# Altium footprint library MyLibs_Connectors.PcbLib: 20 footprints (part 1 of 2)
Each footprint in its own frame and in the unit in brackets; x right, y up, seen from the top. Pads: shape width x height; smd on the part's side, far side on the other; paste and mask are expansions set on the pad; w line width, h text height; cw(c..) or ccw(c..) is an arc to the next point about the centre after c.
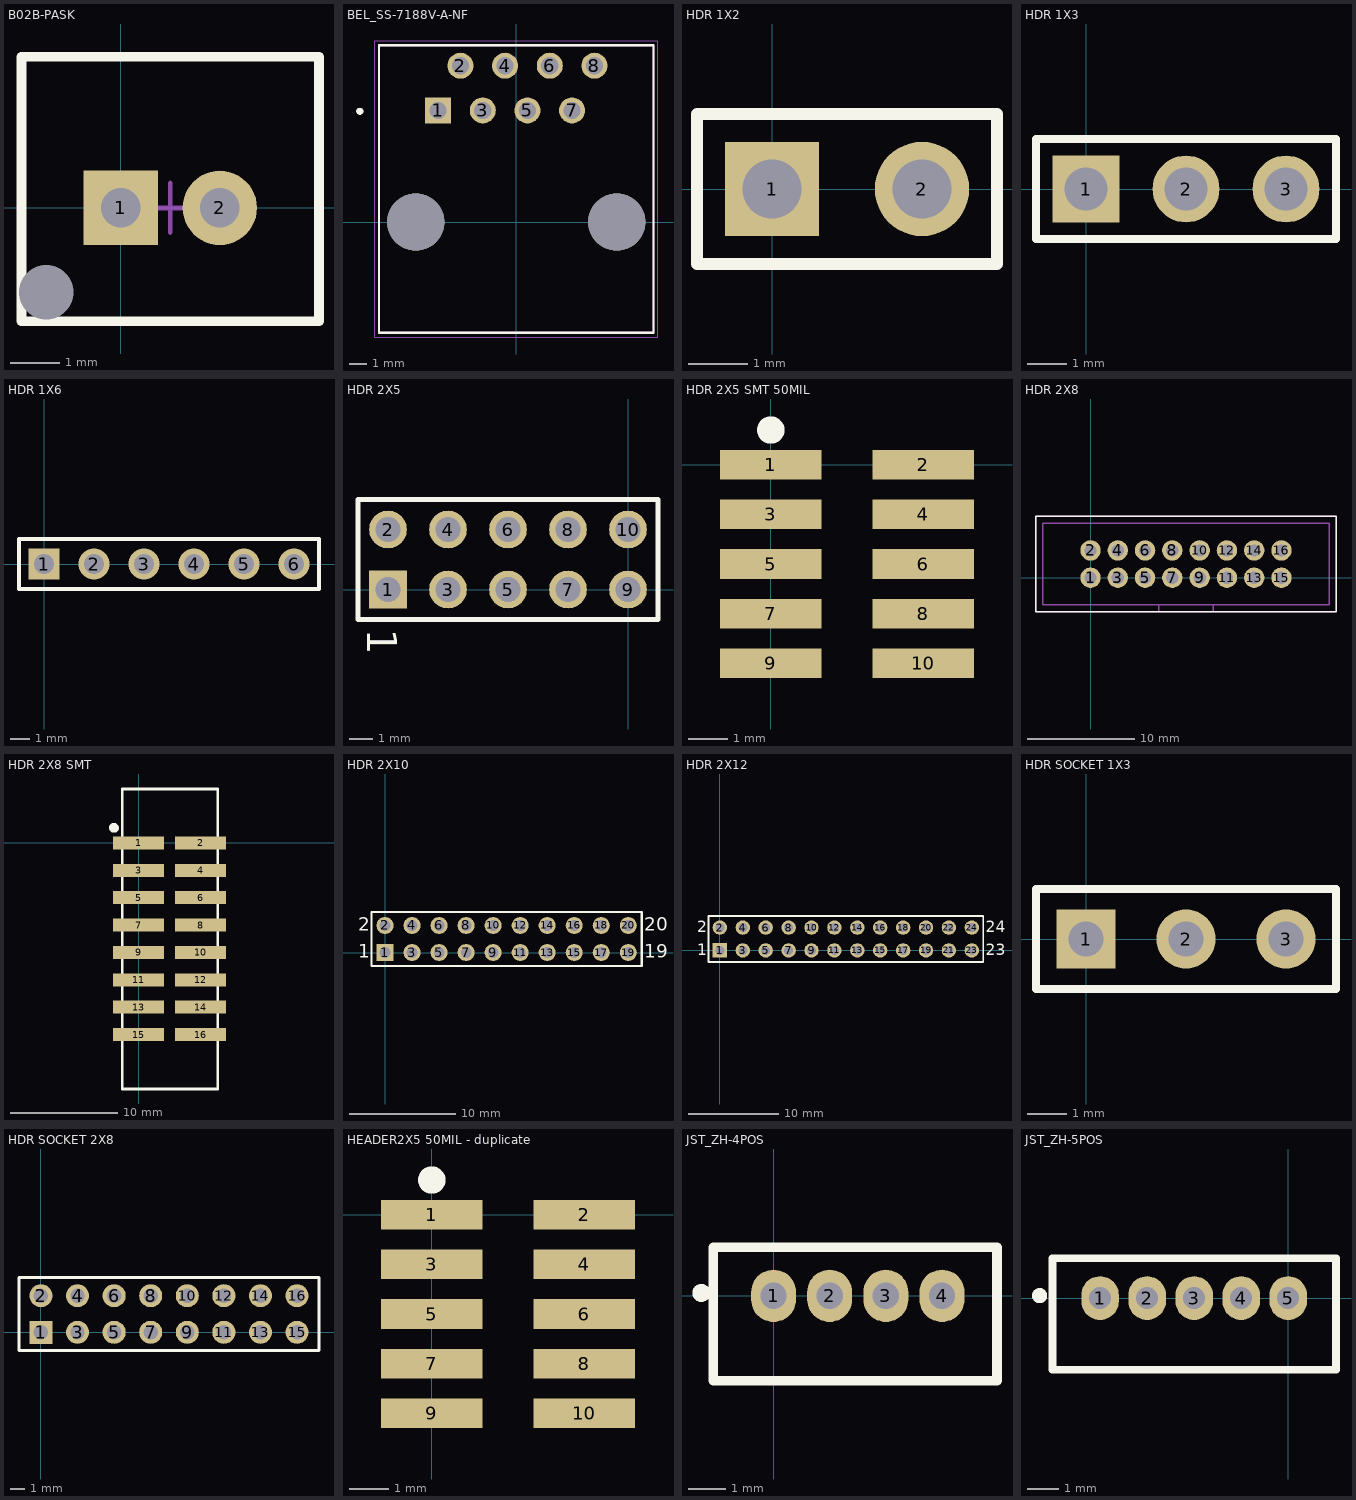
[diagram p0: the footprints below, top view; thin cyan lines are the x and y axes]

## B02B-PASK [mm]
pads (3):
  rect 1.5x1.5 hole 0.8: 1(0,0)
  round 1.5 hole 0.8: 2(2,0)
  round 0 hole 1.1 unplated: 3(-1.5,-1.7)
Top Overlay:
  lines w0.2: -2,-2.286 4,-2.286 4,3.048 -2,3.048 -2,-2.286
Top Designator:
  text ".Designator" at -1.005,0.18 h0.89
Mechanical 13:
  lines w0.1: -2,-2.286 -2,3.048 4,3.048 4,-2.286 -2,-2.286
Mechanical 15:
  lines w0.1: 0.5,0 1.5,0 ; 1,-0.5 1,0.5
3D body "B02B-PASK.STEP": height 7.71, standoff -2.99, extent -1.984,-2.2 4.016,3.1

## BEL_SS-7188V-A-NF [mm]
pads (10):
  rect 1.478x1.478 hole 0.97: 1(-4.445,6.35)
  round 1.478 hole 0.97: 2(-3.175,8.89) 3(-1.905,6.35) 4(-0.635,8.89) 5(0.635,6.35) 6(1.905,8.89) 7(3.175,6.35) 8(4.445,8.89)
  round 3.25 hole 3.25 unplated: ""(-5.715,0) ""(5.715,0)
Top Overlay:
  circle w0.2: c-8.9,6.3 r0.1
  lines w0.127: -7.81,-6.3 7.81,-6.3 7.81,10.06 -7.81,10.06 -7.81,-6.3
Mechanical 13:
  circle w0.2: c-8.9,6.3 r0.1
  lines w0.127: -7.81,-6.3 -7.81,10.06 7.81,10.06 7.81,-6.3 -7.81,-6.3
Mechanical 15:
  lines w0.05: -8.06,-6.55 -8.06,10.31 8.06,10.31 8.06,-6.55 -8.06,-6.55
3D body "pxc_1091947_00_CUC-IND-J1ST-S-R4LS-LED_3D.stp": height 13.68, standoff -4.18, extent -8.074,-5.178 8.074,9.525

## HDR 1X2 [mm] "Connector; Header; 2 Position"
pads (2):
  rect 1.6x1.6 hole 1: 1(0,0)
  round 1.6 hole 1: 2(2.54,0)
Top Overlay:
  lines w0.2: -1.27,-1.27 -1.27,1.27 3.81,1.27 3.81,-1.27 -1.27,-1.27

## HDR 1X3 [mm] "Header TH 1.1mm holes"
pads (3):
  rect 1.7x1.7 hole 1.1: 1(0,0)
  round 1.7 hole 1.1: 2(2.54,0) 3(5.08,0)
Top Overlay:
  lines w0.2: -1.27,-1.27 -1.27,1.27 6.35,1.27 6.35,-1.27 -1.27,-1.27
Mechanical 10:
  text ".Designator" at 0.076,-1.057 h1
3D body "61300311121_Download_STP_61300311121_rev1.stp": height 8.55, standoff -2.99, extent -1.27,-1.27 6.35,1.27

## HDR 1X6 [mm] "Connector; Header; 6 Position"
pads (6):
  rect 1.6x1.6 hole 1: 1(0,0)
  round 1.6 hole 1: 2(2.54,0) 3(5.08,0) 4(7.62,0) 5(10.16,0) 6(12.7,0)
Top Overlay:
  lines w0.2: -1.27,-1.27 13.97,-1.27 13.97,1.27 -1.27,1.27 -1.27,-1.27

## HDR 2X5 [mm] "Connector; Header; 15x2 Position"
pads (10):
  rect 1.6x1.6 hole 1.05: 1(-10.16,0)
  round 1.6 hole 1.05: 2(-10.16,2.54) 3(-7.62,0) 4(-7.62,2.54) 5(-5.08,0) 6(-5.08,2.54) 7(-2.54,0) 8(-2.54,2.54) 9(0,0) 10(0,2.54)
Top Overlay:
  lines w0.2: -11.43,-1.27 -11.43,3.81 1.27,3.81 1.27,-1.27 -11.43,-1.27
  text "1" at -11.049,-1.651 h1.27
Top Designator:
  text ".Designator" at -9.079,0.55 h0.8
3D body "_ _ _C005DAAN-RC.STEP": height 8.35, standoff -3.04, extent -11.43,-1.19 1.27,3.81

## HDR 2X5 SMT 50MIL [mm] "50mil"
pads (10):
  rect 2.6x0.76 smd: 1(0,0) 2(3.9,0) 3(0,-1.27) 4(3.9,-1.27) 5(0,-2.54) 6(3.9,-2.54) 7(0,-3.81) 8(3.9,-3.81) 9(0,-5.08) 10(3.9,-5.08)
Top Overlay:
  circle w0.5: c0,0.889 r0.1
Top Designator:
  text ".Designator" at 5.949,-1.971 h0.8
3D body "header_2x5.stp": height 4.51, standoff 0.01, extent -0.762,-5.715 4.738,0.635

## HDR 2X8 [mm] "HDR 2X8 TH 2.54MM SHROUDED"
pads (16):
  round 1.9 hole 1.14: 1(0,0) 2(0,2.54) 3(2.54,0) 4(2.54,2.54) 5(5.08,0) 6(5.08,2.54) 7(7.62,0) 8(7.62,2.54) 9(10.16,0) 10(10.16,2.54) 11(12.7,0) 12(12.7,2.54) 13(15.24,0) 14(15.24,2.54) 15(17.78,0) 16(17.78,2.54)
Top Overlay:
  lines w0.125: -5.08,-3.175 22.86,-3.175 22.86,5.725 -5.08,5.725 -5.08,-3.175
Top Designator:
  text ".Designator" at 10.895,1.476 h0.89
Top Component Outline:
  lines w0.125: 6.35,-3.175 6.35,-2.54 ; 11.43,-3.175 11.43,-2.54 ; -5.08,-3.175 -5.08,5.715 22.86,5.715 22.86,-3.175 -5.08,-3.175 ; -4.445,-2.54 -4.445,5.08 22.225,5.08 22.225,-2.54 -4.445,-2.54
3D body "702461604.stp": height 9.25, standoff -3.44, extent -5.08,-3.175 22.86,5.715

## HDR 2X8 SMT [mm] "CNC 16POS 2.54MM SMT CONNECTOR"
pads (16):
  rect 4.75x1.2 smd: 1(0,0) 2(5.75,0) 3(0,-2.54) 4(5.75,-2.54) 5(0,-5.08) 6(5.75,-5.08) 7(0,-7.62) 8(5.75,-7.62) 9(0,-10.16) 10(5.75,-10.16) 11(0,-12.7) 12(5.75,-12.7) 13(0,-15.24) 14(5.75,-15.24) 15(0,-17.78) 16(5.75,-17.78)
Top Overlay:
  circle w0.5: c-2.286,1.397 r0.2
  lines w0.254: -1.524,-22.835 7.341,-22.835 7.341,5.004 -1.524,5.004 -1.524,-22.047 -1.524,-22.835
Top Designator:
  text ".Designator" at 4.699,-8.714 h0.89
3D body "SBH11-_ _ _C-D08-SM-_ _.STEP": height 10.63, standoff 0.01, extent -2.275,-22.828 8.025,4.992

## HDR 2X10 [mm] "Connector; Header; 10x2 Position"
pads (20):
  rect 1.6x1.6 hole 1: 1(0,0)
  round 1.6 hole 1: 2(0,2.54) 3(2.54,0) 4(2.54,2.54) 5(5.08,0) 6(5.08,2.54) 7(7.62,0) 8(7.62,2.54) 9(10.16,0) 10(10.16,2.54) 11(12.7,0) 12(12.7,2.54) 13(15.24,0) 14(15.24,2.54) 15(17.78,0) 16(17.78,2.54) 17(20.32,0) 18(20.32,2.54) 19(22.86,0) 20(22.86,2.54)
Top Overlay:
  lines w0.2: -1.27,-1.27 -1.27,3.81 0.635,3.81 24.13,3.81 24.13,-1.27 0.635,-1.27 -1.27,-1.27
  text "2" at -2.54,2.032 h1.27
  text "1" at -2.54,-0.508 h1.27
  text "19" at 24.384,-0.508 h1.27
  text "20" at 24.384,2.032 h1.27
3D body "_ _ _C010DFAN-RC.STEP": height 10.59, standoff -3.04, extent -1.27,-1.19 24.13,3.81

## HDR 2X12 [mm] "Connector; Header; 12x2 Position"
pads (24):
  rect 1.6x1.6 hole 1: 1(0,0)
  round 1.6 hole 1: 2(0,2.54) 3(2.54,0) 4(2.54,2.54) 5(5.08,0) 6(5.08,2.54) 7(7.62,0) 8(7.62,2.54) 9(10.16,0) 10(10.16,2.54) 11(12.7,0) 12(12.7,2.54) 13(15.24,0) 14(15.24,2.54) 15(17.78,0) 16(17.78,2.54) 17(20.32,0) 18(20.32,2.54) 19(22.86,0) 20(22.86,2.54) 21(25.4,0) 22(25.4,2.54) 23(27.94,0) 24(27.94,2.54)
Top Overlay:
  lines w0.2: -1.27,-1.27 0.635,-1.27 29.21,-1.27 29.21,3.81 0.635,3.81 -1.27,3.81 -1.27,-1.27
  text "24" at 29.464,2.032 h1.27
  text "23" at 29.464,-0.508 h1.27
  text "1" at -2.54,-0.508 h1.27
  text "2" at -2.54,2.032 h1.27
3D body "_ _ _C012DFAN-RC.STEP": height 10.59, standoff -3.04, extent -1.27,-1.27 29.21,3.73

## HDR SOCKET 1X3 [mm]
pads (3):
  rect 1.5x1.5 hole 0.9: 1(0,0)
  round 1.5 hole 0.9: 2(2.54,0) 3(5.08,0)
Top Overlay:
  lines w0.2: -1.27,-1.27 -1.27,1.27 6.35,1.27 6.35,-1.27 -1.27,-1.27
3D body "c-215300-3-f-3d.stp": height 8.51, standoff -2.99, extent -1.27,-1.27 6.35,1.25

## HDR SOCKET 2X8 [mm]
pads (16):
  rect 1.6x1.6 hole 1: 1(0,0)
  round 1.6 hole 1: 2(0,2.54) 3(2.54,0) 4(2.54,2.54) 5(5.08,0) 6(5.08,2.54) 7(7.62,0) 8(7.62,2.54) 9(10.16,0) 10(10.16,2.54) 11(12.7,0) 12(12.7,2.54) 13(15.24,0) 14(15.24,2.54) 15(17.78,0) 16(17.78,2.54)
Top Overlay:
  lines w0.2: -1.524,-1.27 -1.524,3.81 19.304,3.81 19.304,-1.27 -1.524,-1.27
3D body "_ _ _C082LFBN-RC.STEP": height 8.51, standoff -3.19, extent -1.524,-1.27 19.296,3.81

## HEADER2X5 50MIL - duplicate [mm] "50mil"
pads (10):
  rect 2.6x0.76 smd: 1(0,0) 2(3.9,0) 3(0,-1.27) 4(3.9,-1.27) 5(0,-2.54) 6(3.9,-2.54) 7(0,-3.81) 8(3.9,-3.81) 9(0,-5.08) 10(3.9,-5.08)
Top Overlay:
  circle w0.5: c0,0.889 r0.1
Top Designator:
  text ".Designator" at 5.949,-1.971 h0.8
3D body "header_2x5.stp": height 4.51, standoff 0.01, extent -0.762,-5.715 4.738,0.635

## JST_ZH-4POS [mm]
pads (4):
  oval 1.2x1.4 hole 0.7: 1(0,0) 2(1.5,0) 3(3,0) 4(4.5,0)
Top Overlay:
  circle w0.254: c-1.93,0.076 r0.114
  lines w0.254: -1.605,-2.264 -1.605,1.292 5.969,1.292 5.969,-2.264 -1.574,-2.264
3D body "B4B-ZR.STEP": height 4.51, standoff -2.69, extent -1.531,-2.246 5.969,1.254

## JST_ZH-5POS [mm]
pads (5):
  oval 1.2x1.4 hole 0.7: 1(-6,0) 2(-4.5,0) 3(-3,0) 4(-1.5,0) 5(0,0)
Top Overlay:
  circle w0.254: c-7.93,0.076 r0.114
  lines w0.254: -7.524,-2.286 -7.524,1.27 1.524,1.27 1.524,-2.286 -7.493,-2.286
3D body "B5B-ZR.STEP": height 4.51, standoff -2.69, extent -7.476,-2.23 1.524,1.27